# EAGLE library part RGB_LED (library TT-LEDs)
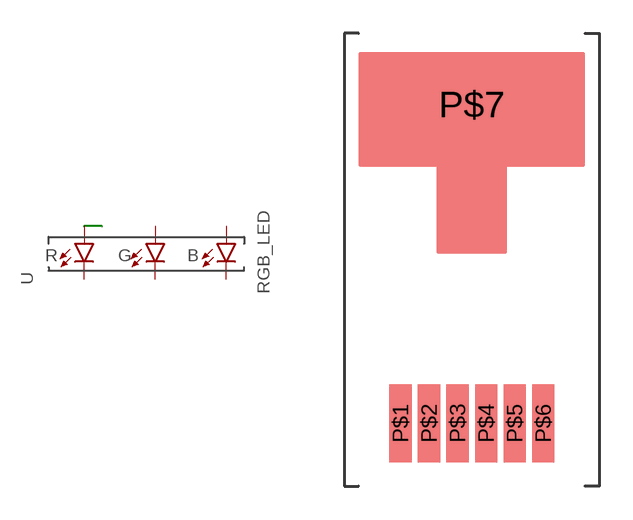
[diagram p0: symbol with the pads of RGB_LED_ASMT-MT00-00001; footprint RGB_LED_ASMT-MT00-00001]

Designator prefix -

## RGB_LED  [RGB_LED_ASMT-MT00-00001]
P$1  G-A  pas
P$2  G-C  pas
P$3  R-C  pas
P$4  R-A  pas
P$5  B-C  pas
P$6  B-A  pas
P$7  R-A2  pas

## Footprint RGB_LED_ASMT-MT00-00001 (pad centres in mm)
smd 1 x 3.5: P$1 -3.2,-9.25; P$2 -1.92,-9.25; P$3 -0.64,-9.25; P$4 0.64,-9.25; P$5 1.92,-9.25; P$6 3.2,-9.25
smd 6.35 x 3.81: P$7 0,5.08